# Altium footprint library 通讯接口.PcbLib: 39 footprints (part 3 of 3)
Each footprint in its own frame and in the unit in brackets; x right, y up, seen from the top. Pads: shape width x height; smd on the part's side, far side on the other; paste and mask are expansions set on the pad; w line width, h text height; cw(c..) or ccw(c..) is an arc to the next point about the centre after c.
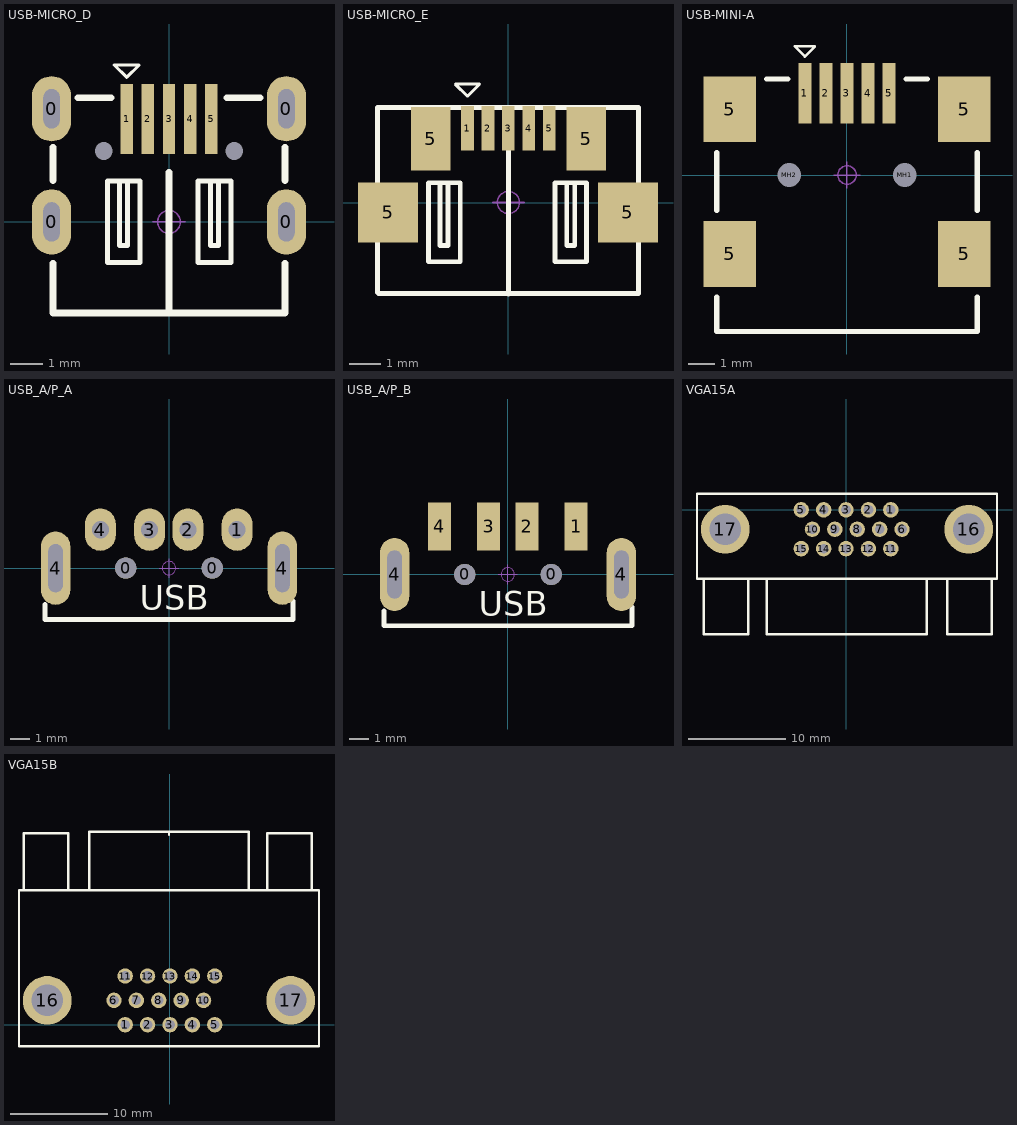
[diagram p2: the footprints below, top view; thin cyan lines are the x and y axes]

## USB-MICRO_D [mm] "micro型USB ，6.7*7.5*2.5mm"
pads (11):
  oval 1.2x2 hole 0.5 slot 1.2 at 90 deg: 0(-3.6,0) 0(-3.6,3.47) 0(3.6,0) 0(3.6,3.47)
  round 0 hole 0.55 unplated: 0(-2,2.17) 0(2,2.17)
  rect 0.381x2.15 smd: 1(-1.3,3.16) 2(-0.65,3.16) 3(0,3.16) 4(0.65,3.16) 5(1.3,3.16)
Top Overlay:
  lines w0.1: -1.681,4.811 -1.3,4.43 -0.919,4.811 -1.681,4.811
  lines w0.152: -1.524,1.257 -1.524,-0.728 -1.321,-0.728 -1.27,-0.728 -1.27,1.257 ; 1.27,1.257 1.27,-0.728 1.524,-0.728 1.524,1.257 ; -1.885,-1.243 -1.885,1.257 -0.885,1.257 -0.885,-1.243 -1.885,-1.243 ; 0.896,-1.243 1.896,-1.243 1.896,1.257 0.896,1.257 0.896,-1.243
  lines w0.203: -3.556,-1.27 -3.556,-2.794 3.556,-2.794 3.556,-1.27 ; -3.556,1.27 -3.556,2.286 ; -2.794,3.81 -1.778,3.81 ; 0,-2.75 0,1.524 ; 1.778,3.81 2.794,3.81 ; 3.556,1.27 3.556,2.286
Mechanical 15:
  circle w0.05: c0,0 r0.35
  lines w0.05: -0.5,0 0.5,0 ; 0,-0.5 0,0.5
3D body "USB micro_D.STEP": height 2.79, standoff -0.95, extent -3.985,-2.75 3.985,3.95

## USB-MICRO_E [mm] "micro型USB ，5.9*8.2*2.5mm"
pads (9):
  rect 0.4x1.4 smd: 1(-1.296,2.355) 2(-0.648,2.355) 3(0,2.355) 4(0.648,2.355) 5(1.295,2.355)
  rect 1.9x1.9 smd: 5(-3.81,-0.312) 5(3.784,-0.312)
  rect 1.25x2 smd: 5(-2.464,2.025) 5(2.464,2.025)
Top Overlay:
  lines w0.1: -1.677,3.752 -0.915,3.752 -1.296,3.371 -1.677,3.752
  lines w0.152: -4.14,-2.852 -4.14,3.016 ; -4.115,-2.877 4.089,-2.877 ; -4.09,3.016 4.089,3.016 ; -2.165,0.628 -2.165,-1.357 -1.962,-1.357 -1.911,-1.357 -1.911,0.628 ; 0,-2.889 0,2.99 ; 1.848,0.628 1.848,-1.357 2.102,-1.357 2.102,0.628 ; 4.115,-2.877 4.115,3.016 ; -2.526,-1.872 -1.526,-1.872 -1.526,0.628 -2.526,0.628 -2.526,-1.872 ; 1.474,-1.872 1.474,0.628 2.474,0.628 2.474,-1.872 1.474,-1.872
Mechanical 15:
  circle w0.05: c0,0.006 r0.35
  lines w0.05: -0.5,0.006 0.5,0.006 ; 0,-0.494 0,0.506
3D body "USB-MICRO B型 ?": height 2.69, standoff -0.24, extent -3.982,-2.772 3.982,2.65

## USB-MINI-A [mm] "MINI型USB，7.9*7.5*4.1mm"
pads (11):
  rect 0.5x2.3 smd: 1(-1.6,3.108) 2(-0.8,3.108) 3(0,3.108) 4(0.8,3.108) 5(1.6,3.108)
  rect 2x2.5 smd: 5(-4.45,-3) 5(-4.45,2.5) 5(4.45,-3) 5(4.45,2.5)
  round 0.6 hole 0.9 unplated: MH1(2.2,0) MH2(-2.2,0)
Top Overlay:
  lines w0.1: -1.981,4.886 -1.219,4.886 -1.6,4.505 -1.981,4.886
  lines w0.2: -4.95,-4.65 -4.95,-5.95 4.95,-5.95 4.95,-4.65 ; -4.95,-1.35 -4.95,0.85 ; -3.05,3.65 -2.25,3.65 ; 2.25,3.65 3.05,3.65 ; 4.95,-1.35 4.95,0.85
Mechanical 15:
  circle w0.05: c0,0 r0.35
  lines w0.05: -0.5,0 0.5,0 ; 0,-0.5 0,0.5
3D body "USB MINI B型 ?": height 3.95, standoff -0.7, extent -4.75,-6 4.75,3.7

## USB_A/P_A [mm] "A型USB 插头，20*13*4.5mm"
height 1.75
pads (8):
  round 1.1 hole 1.1: 0(-2.25,0) 0(2.25,0)
  oval 1.6x2.2 hole 0.9: 1(3.543,2) 2(0.987,2) 3(-1.013,2) 4(-3.569,2)
  oval 1.524x3.81 hole 0.762 slot 2.5 at 90 deg: 4(-5.9,0) 4(5.9,0)
Top Overlay:
  lines w0.254: -6.45,-1.9 -6.45,-2.667 6.45,-2.667 6.45,-1.7
  text "USB" at -1.524,-2.159 h1.27
Mechanical 15:
  circle w0.05: c0,0 r0.35
  lines w0.05: -0.5,0 0.5,0 ; 0,-0.5 0,0.5
3D body "USB A型 ?": height 3.25, standoff -2.52, extent -6.473,-17.9 6.473,2.105

## USB_A/P_B [mm] "A型USB 插头，20*13*4.5mm"
height 1.75
pads (8):
  round 1.1 hole 1.1: 0(-2.237,0) 0(2.263,0)
  rect 1.2x2.5 smd: 1(3.556,2.508) 2(1,2.508) 3(-1,2.508) 4(-3.556,2.508)
  oval 1.524x3.81 hole 0.762 slot 2.5 at 90 deg: 4(-5.887,0) 4(5.913,0)
Top Overlay:
  lines w0.254: -6.437,-1.9 -6.437,-2.667 6.463,-2.667 6.463,-1.7
  text "USB" at -1.511,-2.159 h1.27
Mechanical 15:
  circle w0.05: c0,0 r0.35
  lines w0.05: -0.5,0 0.5,0 ; 0,-0.5 0,0.5
3D body "USB A型 ?": height 3.25, standoff -2.52, extent -6.46,-17.9 6.487,2.7

## VGA15A [mm] "15针通讯接口"
pads (17):
  round 1.58 hole 1: 1(4.6,0) 2(2.3,0) 3(0,0) 4(-2.3,0) 5(-4.6,0) 6(5.75,-1.992) 7(3.45,-1.992) 8(1.15,-1.992) 9(-1.15,-1.992) 10(-3.45,-1.992) 11(4.6,-3.984) 12(2.3,-3.984) 13(0,-3.984) 14(-2.3,-3.984) 15(-4.6,-3.984)
  round 5 hole 3.25: 16(12.6,-1.992) 17(-12.4,-1.992)
Top Overlay:
  lines w0.254: -14.605,-7.087 -14.605,-12.751 -10.025,-12.751 -10.025,-7.087 ; -8.125,-7.061 -8.125,-12.751 8.275,-12.751 8.275,-7.137 ; 10.405,-7.061 10.405,-12.751 14.975,-12.751 14.975,-7.061 ; -15.3,-7.061 15.5,-7.061 15.5,1.629 -15.3,1.629 -15.3,-7.061
Mechanical 15:
  circle w0.05: c0,0 r0.35
  lines w0.05: -0.5,0 0.5,0 ; 0,-0.5 0,0.5
3D body "User Library-SLIM D-SUB RIGHT ANGLE PCB MOUNT.step": height 10.75, standoff -2.59, extent -15.397,-12.395 15.403,1.075

## VGA15B [mm] "15针通讯接口"
pads (17):
  round 1.58 hole 1: 1(-4.6,0) 2(-2.3,0) 3(0,0) 4(2.3,0) 5(4.6,0) 6(-5.75,2.5) 7(-3.45,2.5) 8(-1.15,2.5) 9(1.15,2.5) 10(3.45,2.5) 11(-4.6,5) 12(-2.3,5) 13(0,5) 14(2.3,5) 15(4.6,5)
  round 5 hole 3.25: 16(-12.6,2.5) 17(12.4,2.5)
Top Overlay:
  lines w0.254: -15.5,-2.2 -15.5,13.8 15.3,13.8 15.3,-2.2 -15.49,-2.2 -15.5,-2.19 ; -15,13.8 -15,19.67 -10.43,19.67 -10.43,13.82 ; -8.3,13.8 -8.3,19.8 8.1,19.8 8.1,13.8 ; -0.1,19.5 -0.1,19.8 ; 10,13.8 10,19.68 14.58,19.68 14.58,13.84
Mechanical 15:
  circle w0.05: c0,0 r0.35
  lines w0.05: -0.5,0 0.5,0 ; 0,-0.5 0,0.5
3D body "SW3dPS-Connector, D-Sub, 15 pin HD, RA, Receptacle.STEP": height 12.77, standoff -3.27, extent -15.655,-0.875 15.155,20.225